# EAGLE library part SYMBOLPLANAR2 (library PLANARTRANSFORMER)
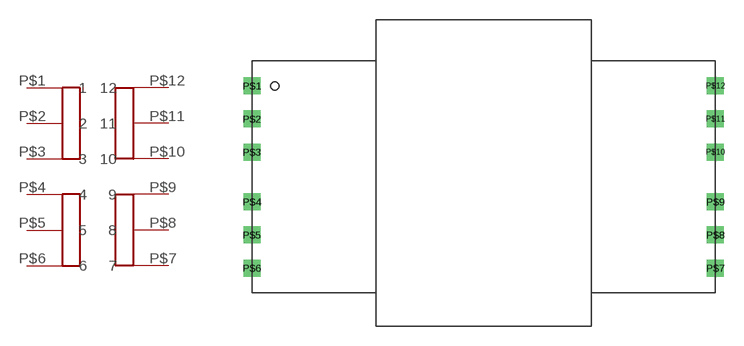
[diagram p1: symbol with the pads of PLANARE22PACKAGE; footprint PLANARE22PACKAGE]

Designator prefix -

## SYMBOLPLANAR2  [PLANARE22PACKAGE]
P$1  1
P$2  2
P$3  3
P$4  4
P$5  5
P$6  6
P$7  7
P$8  8
P$9  9
P$10  10
P$11  11
P$12  12

## Footprint PLANARE22PACKAGE (pad centres in mm)
drill 0.8 square: P$1 -9.525,-5.08; P$2 -9.525,-7.62; P$3 -9.525,-10.16; P$4 -9.525,-13.97; P$5 -9.525,-16.51; P$6 -9.525,-19.05; P$7 26.035,-19.05; P$8 26.035,-16.51; P$9 26.035,-13.97; P$10 26.035,-10.16; P$11 26.035,-7.62; P$12 26.035,-5.08